# Altium footprint library 105-1102-001.PcbLib: 1 footprints
Each footprint in its own frame and in the unit in brackets; x right, y up, seen from the top. Pads: shape width x height; smd on the part's side, far side on the other; paste and mask are expansions set on the pad; w line width, h text height; cw(c..) or ccw(c..) is an arc to the next point about the centre after c.
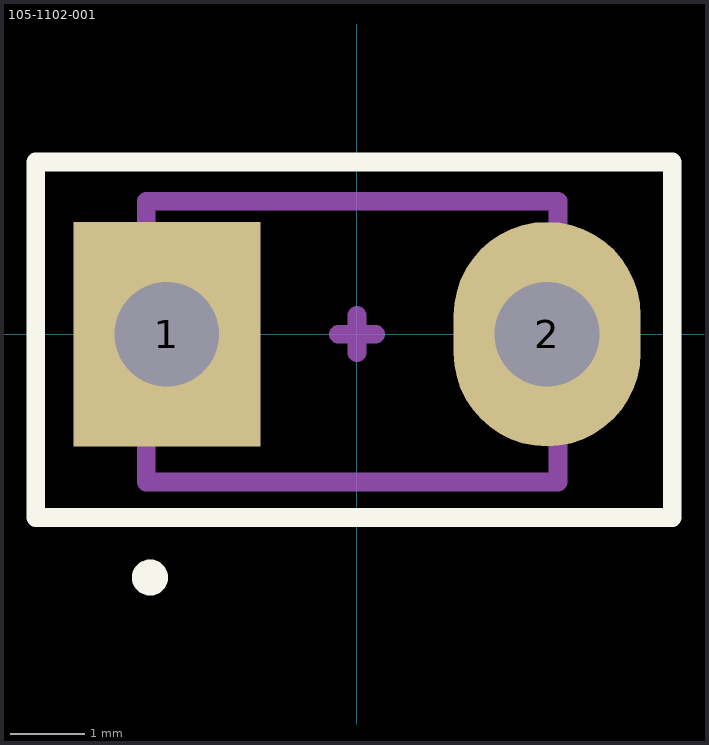
[diagram p0: the footprint, top view; thin cyan lines are the x and y axes]

## 105-1102-001 [mm]
pads (2):
  rect 2.5x3 hole 1.4: 1(-2.54,0)
  oval 2.5x3 hole 1.4: 2(2.54,0)
Top Overlay:
  circle w0.254: c-2.765,-3.25 r0.114
  lines w0.25: -4.29,-2.45 -4.29,2.3 4.21,2.3 4.21,-2.45 -4.29,-2.45
Mechanical 13:
  lines w0.25: -2.815,-1.975 -2.815,1.775 2.685,1.775 2.685,-1.975 -2.815,-1.975
Mechanical 15:
  lines w0.25: -0.25,0 0,0 ; 0,-0.25 0,0 ; 0,0.25 0,0 ; 0.25,0 0,0
3D body "105-1102-001.STEP": height 6.08, standoff -2.25, extent -2.692,-1.884 2.692,1.85